# EAGLE library part FDC2X12 (library dawidkulpa_dev)
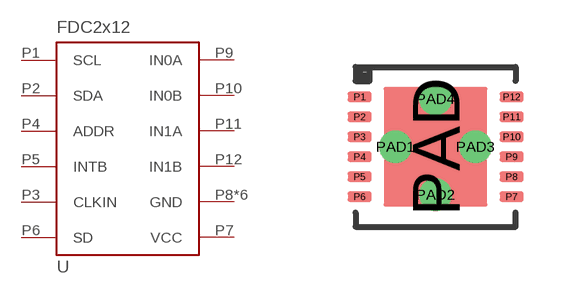
[diagram p34: symbol with the pads of WSON12_4X4; footprint WSON12_4X4]

Designator prefix -

## FDC2X12  [WSON12_4X4]
P1  SCL
P2  SDA
P3  CLKIN
P4  ADDR
P5  INTB
P6  SD
P7  VCC
P8  GND
P9  IN0A
P10  IN0B
P11  IN1A
P12  IN1B
PAD  GND
PAD1  GND
PAD2  GND
PAD3  GND
PAD4  GND

## Footprint WSON12_4X4 (pad centres in mm)
smd 0.6 x 0.25: P1 -1.9,1.25; P2 -1.9,0.75; P3 -1.9,0.25; P4 -1.9,-0.25; P5 -1.9,-0.75; P6 -1.9,-1.25; P7 1.9,-1.25; P8 1.9,-0.75; P9 1.9,-0.25; P10 1.9,0.25; P11 1.9,0.75; P12 1.9,1.25
smd 2.6 x 3: PAD 0,0
drill 0.3 pad 0.6: PAD1 -1,0; PAD2 0,-1.2; PAD3 1,0; PAD4 0,1.2